# Altium schematic symbol library KEYSTONE-3012.SchLib: 1 symbol
Pins are listed as number, name and electrical type; pins without a type are passive.

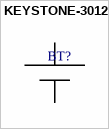
[diagram p0: symbol KEYSTONE-3012]

## KEYSTONE-3012
designator BT?  (value not drawn)
KEYSTONE 3012 COIN CELL HOLDER 16MM
pins: 0, 1